# EAGLE library part ADS1114 (library booz)
16 bit ADC
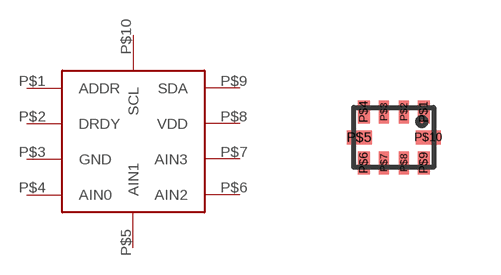
[diagram p14: symbol with the pads of R-PQFP-N10; footprint R-PQFP-N10]

Designator prefix -

## ADS1114  [R-PQFP-N10]
P$1  ADDR
P$2  DRDY
P$3  GND
P$4  AIN0
P$5  AIN1
P$6  AIN2
P$7  AIN3
P$8  VDD
P$9  SDA
P$10  SCL

## Footprint R-PQFP-N10 (pad centres in mm)
From TI ADS1114 datasheet
smd 0.3 x 0.58: P$1 0.75,0.637; P$4 -0.75,0.637; P$6 -0.75,-0.637; P$9 0.75,-0.637
smd 0.25 x 0.58: P$2 0.25,0.637; P$3 -0.25,0.637; P$7 -0.25,-0.637; P$8 0.25,-0.637
smd 0.63 x 0.35: P$5 -0.863,0; P$10 0.863,0